# EAGLE library part ESP01 (library esp01)
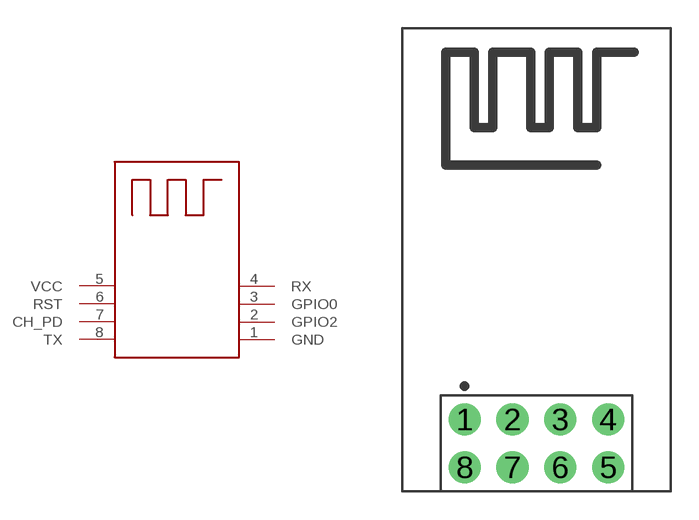
[diagram p0: symbol with the pads of HDRV8W64P254_2X4_1016X508X838B; footprint HDRV8W64P254_2X4_1016X508X838B]

Designator prefix -

## ESP01ESP01  [HDRV8W64P254_2X4_1016X508X838B]
1  GND  pwr
2  GPIO2
3  GPIO0
4  RX  in
5  VCC  pwr
6  RST
7  CH_PD
8  TX  out

## Footprint HDRV8W64P254_2X4_1016X508X838B (pad centres in mm)
Double-row, 8-pin Pin Header (Male) Straight, 2.54 mm (0.10 in) row pitch, 2.54 mm (0.10 in) col pitch, 5.84 mm mating length, 10.16 X 5.08 X 8.38 mm body Double-row (2X4), 8-pin Pin Header (Male) Straight package with 2.54 mm (0.10 in) row pitch, 2.54 mm (0.10 in) col pitch, 0.64 mm lead width, 3.00 mm tail length and 5.84 mm mating length with overall size 10.16 X 5.08 X 8.38 mm, pin pattern - clockwise from top left
drill 1.105 pad 1.705: 1 -0.5,0; 2 2.04,0; 3 4.58,0; 4 7.12,0; 5 7.12,-2.54; 6 4.58,-2.54; 7 2.04,-2.54; 8 -0.5,-2.54